# Altium schematic symbol library SCH - POWER - SWITCHMODE - TI TPS563211DRL.SchLib: 1 symbol
Pins are listed as number, name and electrical type; pins without a type are passive.

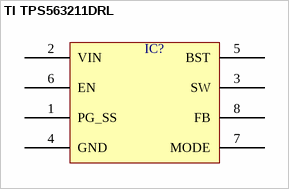
[diagram p0: symbol TI TPS563211DRL]

## TI TPS563211DRL
designator IC?  (value not drawn)
pins: 1 PG_SS, 2 VIN, 3 SW, 4 GND, 5 BST, 6 EN, 7 MODE, 8 FB